# EAGLE library part MAX3208 (library df4iah_esd)
MAX3208 ESD protection circuit
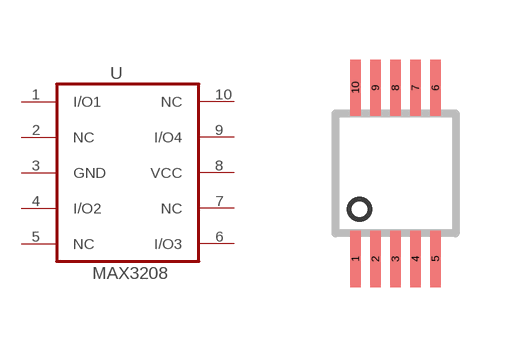
[diagram p0: symbol with the pads of USOP-10L; footprint USOP-10L]

Designator prefix U

## MAX3208  [USOP-10L]
1  I/O1
2  NC
3  GND
4  I/O2
5  NC  in
6  I/O3  in
7  NC  out
8  VCC  out
9  I/O4
10  NC

## Footprint USOP-10L (pad centres in mm)
10L µMAX / µSOP maxim integrated
smd 0.28 x 1.4: 1 -1,-2.14; 2 -0.5,-2.14; 3 0,-2.14; 4 0.5,-2.14; 5 1,-2.14; 6 1,2.14; 7 0.5,2.14; 8 0,2.14; 9 -0.5,2.14; 10 -1,2.14